# EAGLE library part 618062330923 (library 632723100011_Eagle_WR-USB_rev19b)
WR-DSUB Female High Density Angled PCB Connector with Hex Screw 62 Pins=>Code : Con_I-O_DSUB_PCB_Female_w-screw_618062330923 <https://katalog.we-online.com/media/images/v2/o33093v209%20Family_WR-DSUB_6180xx330923.jpg> Details see: https://katalog.we-online.com/en/em/DSUB_FEMALE_HIGH_DENSITY_ANGLED_PCB_CONNECTOR_W_HEX_SCREW_6180XX330923 Updated by Ella Wu 2019-03-13 2019 (C) Würth Elektronik
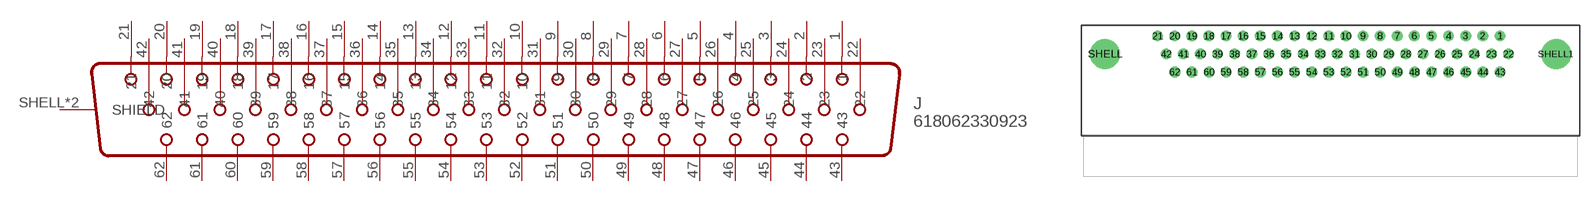
[diagram p59: symbol with the pads of 618062330923; footprint 618062330923]

Designator prefix J

## 618062330923 (WE-NUMBER: 618062330923)  [618062330923]
1  1
2  2
3  3
4  4
5  5
6  6
7  7
8  8
9  9
10  10
11  11
12  12
13  13
14  14
15  15
16  16
17  17
18  18
19  19
20  20
21  21
22  22
23  23
24  24
25  25
26  26
27  27
28  28
29  29
30  30
31  31
32  32
33  33
34  34
35  35
36  36
37  37
38  38
39  39
40  40
41  41
42  42
43  43
44  44
45  45
46  46
47  47
48  48
49  49
50  50
51  51
52  52
53  53
54  54
55  55
56  56
57  57
58  58
59  59
60  60
61  61
62  62
SHELL  SHIELD
SHELL1  SHIELD

## Footprint 618062330923 (pad centres in mm)
WR-DSUB Female High Density Angled PCB Connector with Hex Screw, 62 Pins
drill 1: 1 23.846,2.54; 2 21.436,2.54; 3 19.026,2.54; 4 16.616,2.54; 5 14.206,2.54; 6 11.796,2.54; 7 9.386,2.54; 8 6.976,2.54; 9 4.566,2.54; 10 2.156,2.54; 11 -0.254,2.54; 12 -2.664,2.54; 13 -5.074,2.54; 14 -7.484,2.54; 15 -9.894,2.54; 16 -12.304,2.54; 17 -14.714,2.54; 18 -17.124,2.54; 19 -19.534,2.54; 20 -21.944,2.54; 21 -24.354,2.54; 22 25.056,0; 23 22.646,0; 24 20.236,0; 25 17.826,0; 26 15.416,0; 27 13.006,0; 28 10.596,0; 29 8.186,0; 30 5.776,0; 31 3.366,0; 32 0.956,0; 33 -1.454,0; 34 -3.864,0; 35 -6.274,0; 36 -8.684,0; 37 -11.094,0; 38 -13.504,0; 39 -15.914,0; 40 -18.324,0; 41 -20.734,0; 42 -23.144,0; 43 23.856,-2.54; 44 21.446,-2.54; 45 19.036,-2.54; 46 16.626,-2.54; 47 14.216,-2.54; 48 11.806,-2.54; 49 9.396,-2.54; 50 6.986,-2.54; 51 4.576,-2.54; 52 2.166,-2.54; 53 -0.244,-2.54; 54 -2.654,-2.54; 55 -5.064,-2.54; 56 -7.474,-2.54; 57 -9.884,-2.54; 58 -12.294,-2.54; 59 -14.704,-2.54; 60 -17.114,-2.54; 61 -19.524,-2.54; 62 -21.934,-2.54
drill 3.2: SHELL -31.75,0; SHELL1 31.75,0